# EAGLE library part US6K4TR (library US6K4TR)
Mosfet Array 2 N-Channel (Dual) 20V 1.5A 1W Surface Mount TUMT6 Source: Datasheet <https://fscdn.rohm.com/en/products/databook/datasheet/discrete/transistor/mosfet/us6k4.pdf>
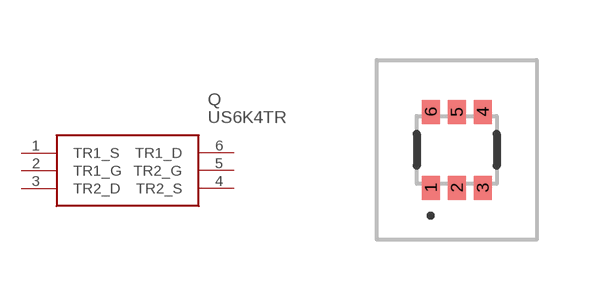
[diagram p0: symbol with the pads of US6K4TR; footprint US6K4TR]

Designator prefix Q

## US6K4TR (Description: Mosfet Array 2 N-Channel (Dual) 20V 1.5A 1W Surface Mount TUMT6; Height: 0.85mm; Manufacturer_Name: ROHM Semiconductor; Manufacturer_Part_Number: US6K4TR; Mouser_Part_Number: 755-US6K4TR; Mouser_Price-Stock: https://www.mouser.co.uk/ProductDetail/ROHM-Semiconductor/US6K4TR?qs=IJ4m%2FCjbxWe5W6oP8dNQeg%3D%3D)  [US6K4TR]
1  TR1_S
2  TR1_G
3  TR2_D
4  TR2_S
5  TR2_G
6  TR1_D

## Footprint US6K4TR (pad centres in mm)
UMT6
smd 0.45 x 0.6: 1 -0.65,-0.95; 2 0,-0.95; 3 0.65,-0.95; 4 0.65,0.95; 5 0,0.95; 6 -0.65,0.95